# Altium footprint library GainBlock_RFMD_SGA6489_PCB.PcbLib: 1 footprints
Each footprint in its own frame and in the unit in brackets; x right, y up, seen from the top. Pads: shape width x height; smd on the part's side, far side on the other; paste and mask are expansions set on the pad; w line width, h text height; cw(c..) or ccw(c..) is an arc to the next point about the centre after c.
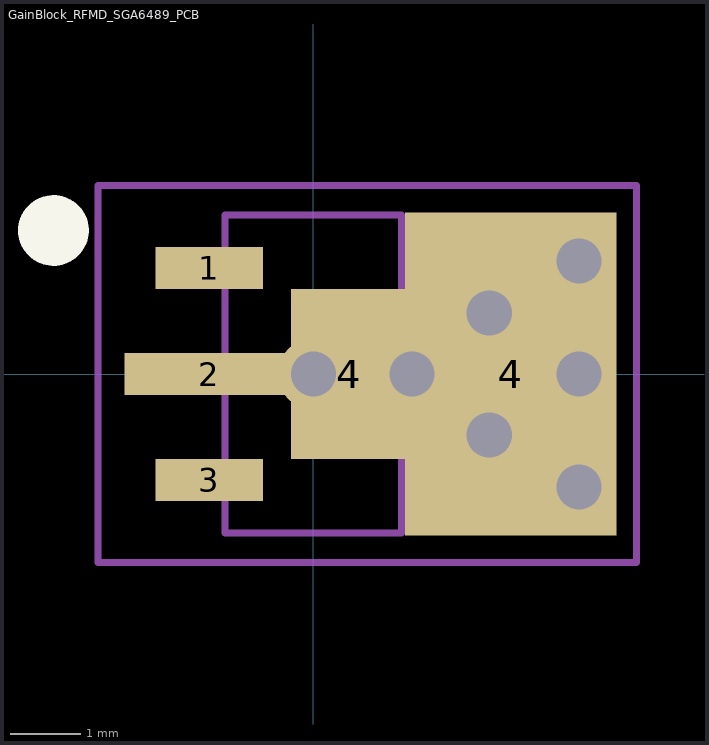
[diagram p0: the footprint, top view; thin cyan lines are the x and y axes]

## GainBlock_RFMD_SGA6489_PCB [mm]
height 1.5
pads (5):
  rect 1.52x0.6 smd mask+0.102: 1(-1.475,1.5)
  rect 2.4x0.6 smd mask+0.102: 2(-1.475,0)
  rect 1.52x0.6 smd: 3(-1.475,-1.5)
  rect 1.65x2.4 smd mask+0.102: 4(0.508,0)
  rect 3x4.57 smd mask+0.102: 4(2.794,0)
via 0,0 diameter 1 hole 0.64
via 3.759,1.599 diameter 1 hole 0.64
via 3.759,0 diameter 1 hole 0.64
via 2.489,-0.864 diameter 1 hole 0.64
via 2.489,0.864 diameter 1 hole 0.64
via 3.759,-1.599 diameter 1 hole 0.64
via 1.397,0 diameter 1 hole 0.64
Top Overlay:
  circle w0.5: c-3.679,2.032 r0.25
Mechanical 13:
  lines w0.1: -1.25,-2.25 -1.25,2.25 1.25,2.25 1.25,-2.25 -1.25,-2.25
Mechanical 15:
  lines w0.1: -3.048,-2.667 -3.048,2.667 4.572,2.667 4.572,-2.667 -3.048,-2.667
3D body: height 1.5, standoff 0, extent -1.25,-2.25 1.25,2.25